# Altium schematic symbol library Components - 26.02.24 - 11.43.SchLib: 1 symbol
Pins are listed as number, name and electrical type; pins without a type are passive.

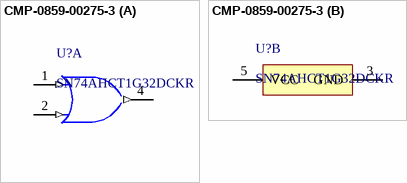
[diagram p0: symbol CMP-0859-00275-3]

## CMP-0859-00275-3
designator U?, comment SN74AHCT1G32DCKR
Single 2-Input Positive-OR Gate, DCK0005A, LARGE T&R; Manufacturer: Texas Instruments; Logic: True; Output Drive (IOL/IOH)(Max)(mA): 8/-8; VCC(Min)(V): 2; Input Type: CMOS; ICC @ Nom Voltage(Max)(mA): 0.01; tpd @ Nom Voltage(Max)(ns): 8; Bits(#): 1; Voltage(Nom)(V): 5; VCC(Max)(V): 5.5; Technology Family: AHCT; Rating: Catalog; Sub-Family: OR Gate; Gate Type: OR; F @ Nom Voltage(Max)(Mhz): 75; 3-State Output: No; PackageReference: DCK0005A; Output Type: CMOS; DatasheetVersion: SCLS320O; Operating Temperature Range(C): -40 to 125; Generic Part Number: SN74AHCT1G32; Schmitt Trigger: No
footprint DCK0005A_N (SOT23, 5-Leads, Body 2.15x1.4mm, Pitch 0.65mm, IPC Medium Density)
footprint DCK0005A_L (SOT23, 5-Leads, Body 2.15x1.4mm, Pitch 0.65mm, IPC High Density)
footprint DCK0005A_M (SOT23, 5-Leads, Body 2.15x1.4mm, Pitch 0.65mm, IPC Low Density)
part A pins: 1 A (in) "Input A", 2 B (in) "Input B", 4 Y (out) "Output Y"
part B pins: 3 GND (power) "Ground Pin", 5 VCC (power) "Power Pin"